# Altium schematic symbol library ADL5565.SchLib: 1 symbol
Pins are listed as number, name and electrical type; pins without a type are passive.

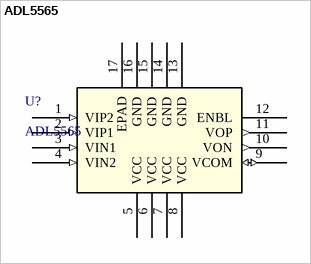
[diagram p0: symbol ADL5565]

## ADL5565
designator U?
No Description Available; Mfr_Name: Analog Devices Inc; Copyright: Copyright (C) 2022 Ultra Librarian. All rights reserved.; Manufacturer_Part_Number: ADL5565; RefDes: RefDes; Type: DEV
footprint CP_16_2_ADI-L
pins: 1 VIP2 (in), 2 VIP1 (in), 3 VIN1 (in), 4 VIN2 (in), 5 VCC (power), 6 VCC (power), 7 VCC (power), 8 VCC (power), 9 VCOM (io), 10 VON (out), 11 VOP (out), 12 ENBL, 13 GND (power), 14 GND (power), 15 GND (power), 16 GND (power), 17 EPAD